# Altium schematic symbol library RPSLib.SchLib: 241 symbols (part 6 of 8)
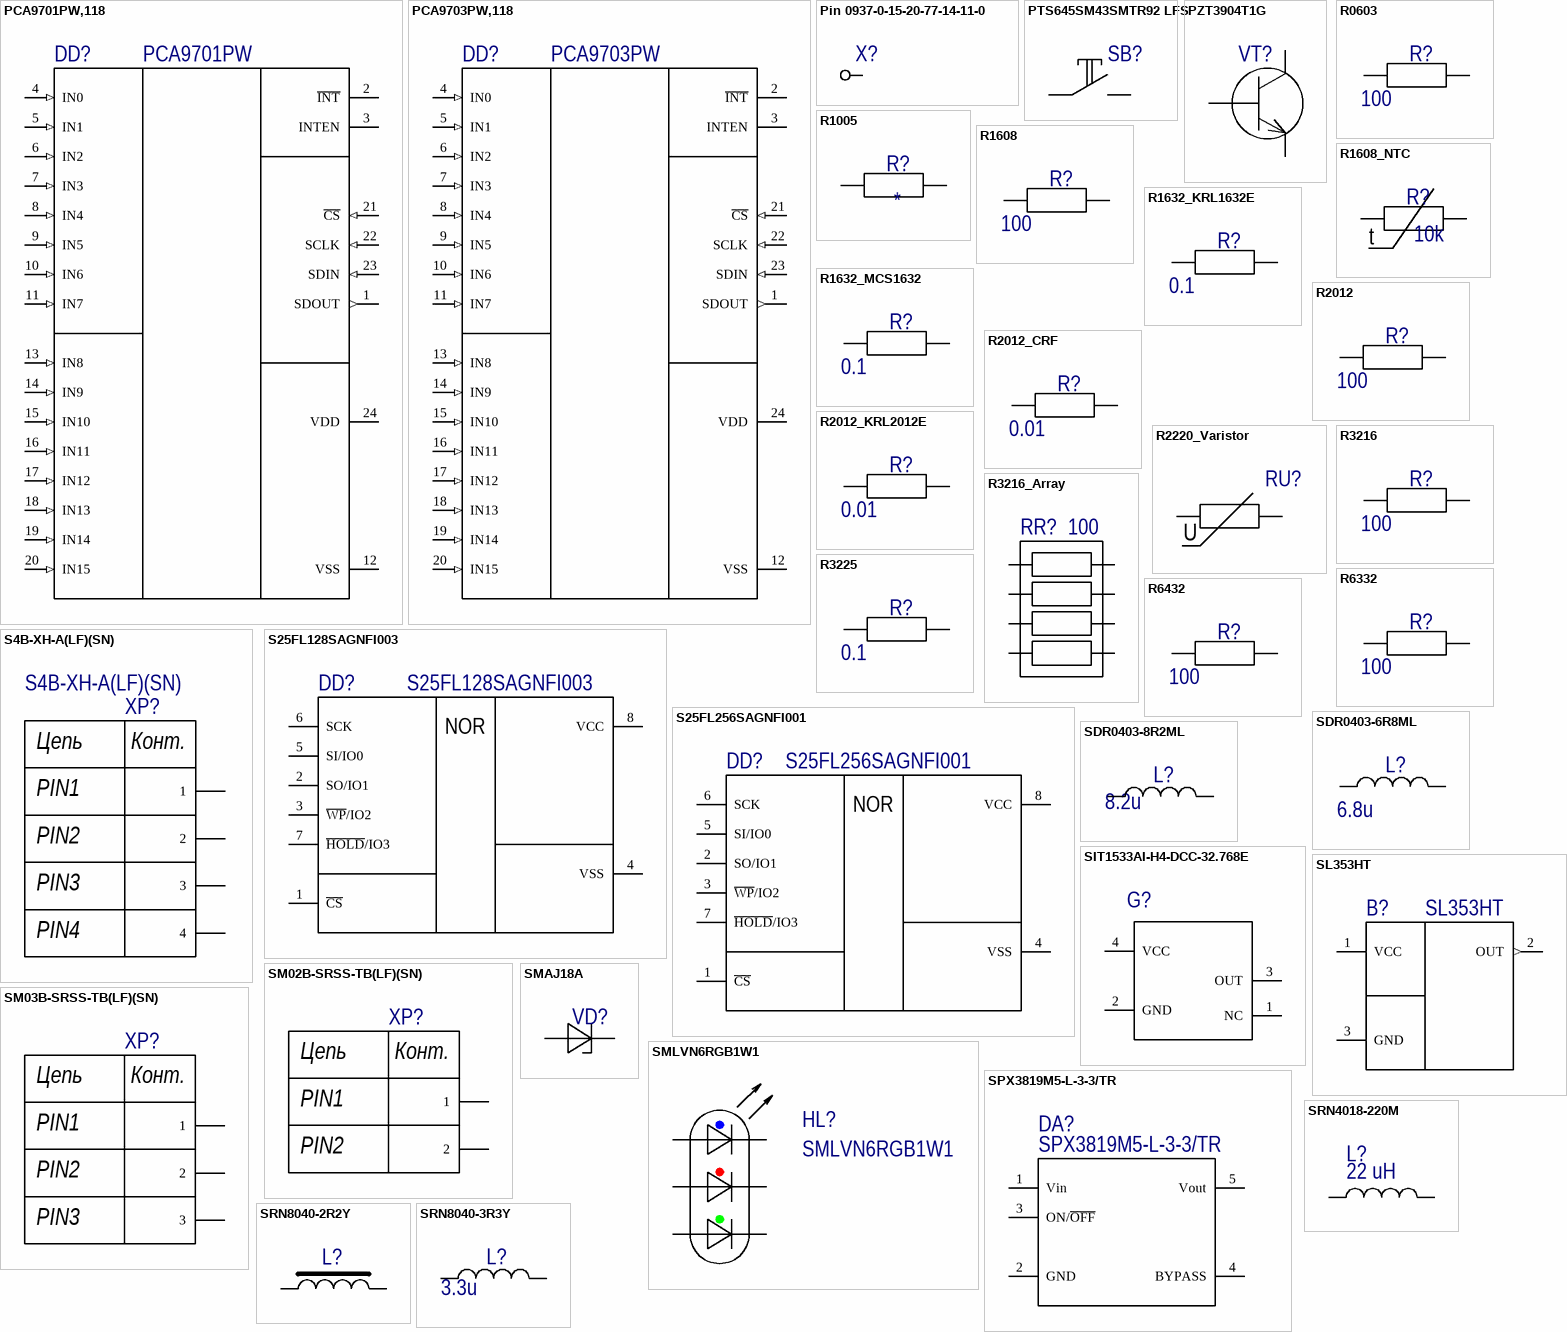
[diagram p30: symbols PCA9701PW,118 to SRN8040-3R3Y]

## SPX3819M5-L-3-3/TR
designator DA?
IC REG LINEAR 3.3V 500MA SOT23-5; Manufacturer: Exar; Dropout Voltage: 340mV; Number of Outputs: 1; Min Input Voltage: 2.5V; Max Input Voltage: 16V; Polarity: Positive; Quiescent Current: 3uA; Accuracy: 1%; Output Type: Fixed; Min Current Limit: 175mA; Power Supply Rejection Ratio (PSRR): 80dB; Supplier 1: Digi-Key; Stock 1: 74655; Pricing 1: 1=0.57, 10=0.479, 25=0.4196, 100=0.3595, 250=0.3116, 500=0.26364, 1000=0.20373 (USD); Mount: Surface Mount; Case/Package: SOT-23-5; Number of Pins: 5; Min Operating Temperature: -40°C; Max Operating Temperature: 125°C; Output Voltage: 3.3V; Packaging: Tape and Reel; Output Current: 500mA; Max Output Current: 500mA; Number of Regulators: 1; Min Output Voltage: 3.3V; Output Voltage Accuracy: 1%; Length: 2.9mm; Height: 1.3mm; Width: 1.6mm; Radiation Hardening: No; Lead Free: Lead Free; ComponentLink1URL: https://www.exar.com/content/document.ashx?id=22106&src-supplier=Digi-Key; ComponentLink1Description: https://www.exar.com/content/document.ashx?id=22106&src-supplier=Digi-Key; ComponentLink2URL: http://www1.futureelectronics.com/doc/EXAR/spx3819_Series.pdf?src-supplier=Future+Electronics; ComponentLink2Description: http://www1.futureelectronics.com/doc/EXAR/spx3819_Series.pdf?src-supplier=Future+Electronics; Package Quantity: 1; ComponentLink3URL: http://www.intersil.com/content/dam/Intersil/documents/isl9/isl9016.pdf?src-supplier=Digi-Key; ComponentLink3Description: http://www.intersil.com/content/dam/Intersil/documents/isl9/isl9016.pdf?src-supplier=Digi-Key; ComponentLink4URL: http://www.intersil.com/content/dam/Intersil/documents/isl9/isl9016.pdf?src-supplier=Avnet; ComponentLink4Description: http://www.intersil.com/content/dam/Intersil/documents/isl9/isl9016.pdf?src-supplier=Avnet; Manufacturer Part Number: SPX3819M5-L-3-3/TR; Supplier Part Number 1: 1016-1873-1-ND
footprint SOT95P280X145-5N (SOT23, 5-Leads, Body 2.90x2.80mm, Pitch 0.95mm, IPC Medium Density)
pins: 1 Vin, 2 GND, 3 ON/~{OFF}, 4 BYPASS, 5 Vout

## SRN4018-220M
designator L?  value 22 uH  (hidden comment: SRN4018-220M)
FIXED IND 22UH 900MA 348 MOHM; Manufacturer: Bourns; Current: 0.9 A; Core Material: Ferrite; Material: Steel; Tolerance: 20%; Shielding: Shielded; DC Resistance (DCR): 348mR; Self Resonant Frequency: 15MHz; Saturation Current: 950mA; Test Frequency: 100kHz; PartNo: SRN4018-220M; Supplier 1: Digi-Key; Supplier Part Number 1: SRN4018-220MCT-ND; Manufacturer Part Number: SRN4018-220M; Stock 1: 133818; Pricing 1: 1=0.44, 10=0.382, 100=0.2731, 500=0.22942, 1000=0.18573 (USD); Mount: Surface Mount; Case/Package: Nonstandard; Number of Pins: 2; Min Operating Temperature: -25°C; Max Operating Temperature: 120°C; Package Quantity: 3000; Packaging: Tape and Reel; Inductance: 22uh; Max DC Current: 900mA; Termination: SMD/SMT; Current Rating: 900mA; Inductance Tolerance: 20%; Composition: Wirewound; DC Current: 900mA; Military Standard: Not; RMS Current (Irms): 900mA; Length: 4mm; Height: 1.8mm; Width: 4mm; Depth: 4.2mm; Height - Seated (Max): 0.071inch; Radiation Hardening: No; REACH SVHC: No SVHC; РКД Наименование: *
footprint SRN4018 (Inductors)
pins: 1, 2

## SRN8040-2R2Y
designator L?  (value not drawn)
BOURNS - SRN8040-2R2Y - INDUCTOR, 2.2UH, 6.3A, 30%, SEMISHIELDED; Core Material: Ferrite; Material: Steel; DC Resistance (DCR): 13mR; Saturation Current: 7.4A; Self Resonant Frequency: 40MHz; Test Frequency: 100kHz; Supplier 1: Digi-Key; Manufacturer: Bourns; Manufacturer Part Number: SRN8040-2R2Y; RoHS: Yes; Category: Fixed Inductors; Stock 1: 4478; Pricing 1: 1=0,74000, 10=0,64400, 100=0,46000, 500=0,38640 (USD); Mount: Surface Mount; Case/Package: Nonstandard; Number of Pins: 2; Weight: 0.028607oz; Contact Plating: Tin; Min Operating Temperature: -40°C; Max Operating Temperature: 125°C; Tolerance: 30%; Inductance: 2.2uH; Max DC Current: 6.3A; Package Quantity: 1000; Packaging: Tape and Reel; Shielding: Shielded; Inductance Tolerance: 30%; Current Rating: 6.3A; Termination: SMD/SMT; Composition: Wirewound; DC Current: 6.3A; Military Standard: Not; RMS Current (Irms): 6.3A; Length: 8mm; Height: 4mm; Width: 8mm; Height - Seated (Max): 0.157inch; Depth: 8.3mm; REACH SVHC: No SVHC; ComponentLink1URL: https://datasheet.ciiva.com/11802/0900766b80fe1f3f-11802605.pdf?src-supplier=RSComponents; ComponentLink1Description: https://datasheet.ciiva.com/11802/0900766b80fe1f3f-11802605.pdf?src-supplier=RSComponents; ComponentLink2URL: https://datasheet.ciiva.com/28678/srn8040-28678249.pdf?src-supplier=Element14; ComponentLink2Description: https://datasheet.ciiva.com/28678/srn8040-28678249.pdf?src-supplier=Element14; ComponentLink3URL: https://datasheet.ciiva.com/8515/srn8040-8515258.pdf?src-supplier=Avnet; ComponentLink3Description: https://datasheet.ciiva.com/8515/srn8040-8515258.pdf?src-supplier=Avnet; ComponentLink4URL: https://datasheet.ciiva.com/7847/1865628-7847915.pdf?src-supplier=Element14; ComponentLink4Description: https://datasheet.ciiva.com/7847/1865628-7847915.pdf?src-supplier=Element14; ComponentLink5URL: https://datasheet.ciiva.com/1049/srn8040-1049453.pdf?src-supplier=Digi-Key; ComponentLink5Description: https://datasheet.ciiva.com/1049/srn8040-1049453.pdf?src-supplier=Digi-Key; ComponentLink6URL: https://datasheet.ciiva.com/1049/srn8040-1049454.pdf?src-supplier=Digi-Key; ComponentLink6Description: https://datasheet.ciiva.com/1049/srn8040-1049454.pdf?src-supplier=Digi-Key; ComponentLink7URL: https://datasheet.ciiva.com/1049/srn8040-1049455.pdf?src-supplier=Digi-Key; ComponentLink7Description: https://datasheet.ciiva.com/1049/srn8040-1049455.pdf?src-supplier=Digi-Key; ComponentLink8URL: https://datasheet.ciiva.com/17284/srn8040-17284783.pdf?src-supplier=Avnet+Europe; ComponentLink8Description: https://datasheet.ciiva.com/17284/srn8040-17284783.pdf?src-supplier=Avnet+Europe; ComponentLink9URL: https://datasheet.ciiva.com/48691/001056460-da-01-en-mag-abg-leist-ind-srn8040-2r2y-2-2uh-smd-48691836.pdf?src-supplier=Conrad; ComponentLink9Description: https://datasheet.ciiva.com/48691/001056460-da-01-en-mag-abg-leist-ind-srn8040-2r2y-2-2uh-smd-48691836.pdf?src-supplier=Conrad; Supplier Part Number 1: SRN8040-2R2YCT-ND
pins: 1, 2

## SRN8040-3R3Y
designator L?  value 3.3u  (hidden comment: *)
FIXED IND 3.3UH 5.6A 21 MOHM SMD; Manufacturer: Bourns; Manufacturer Part Number: SRN8040-3R3Y; Core Material: Ferrite; Material: Steel; Saturation Current: 5.5A; Tolerance: 30%; Shielding: Shielded; DC Resistance (DCR): 21mR; Self Resonant Frequency: 34MHz; Test Frequency: 100kHz; Supplier 1: Digi-Key; Stock 1: 24102; Pricing 1: 1=0,74000, 10=0,64400, 100=0,46000, 500=0,38640 (USD); RoHS: Yes; Mount: Surface Mount; Case/Package: Nonstandard; Number of Pins: 2; Min Operating Temperature: -40°C; Max Operating Temperature: 125°C; Package Quantity: 1000; Current Rating: 5.6A; Packaging: Tape and Reel; Inductance: 3.3u; Inductance Tolerance: 30%; Composition: Wirewound; Max DC Current: 5.6A; Termination: SMD/SMT; RMS Current (Irms): 5.6A; DC Current: 5.6A; Military Standard: Not; Length: 8mm; Height: 4mm; Width: 8mm; Height - Seated (Max): 0.157inch; Depth: 8.3mm; REACH SVHC: No SVHC; ComponentLink1URL: https://datasheet.ciiva.com/1049/srn8040-1049456.pdf?src-supplier=Digi-Key; ComponentLink1Description: https://datasheet.ciiva.com/1049/srn8040-1049456.pdf?src-supplier=Digi-Key; ComponentLink2URL: https://datasheet.ciiva.com/11802/0900766b80fe1f3f-11802600.pdf?src-supplier=RSComponents; ComponentLink2Description: https://datasheet.ciiva.com/11802/0900766b80fe1f3f-11802600.pdf?src-supplier=RSComponents; ComponentLink3URL: https://datasheet.ciiva.com/1049/srn8040-1049458.pdf?src-supplier=Digi-Key; ComponentLink3Description: https://datasheet.ciiva.com/1049/srn8040-1049458.pdf?src-supplier=Digi-Key; ComponentLink4URL: https://datasheet.ciiva.com/1049/srn8040-1049457.pdf?src-supplier=Digi-Key; ComponentLink4Description: https://datasheet.ciiva.com/1049/srn8040-1049457.pdf?src-supplier=Digi-Key; ComponentLink5URL: https://datasheet.ciiva.com/28678/1904951-28678250.pdf?src-supplier=Element14; ComponentLink5Description: https://datasheet.ciiva.com/28678/1904951-28678250.pdf?src-supplier=Element14; ComponentLink6URL: https://datasheet.ciiva.com/7847/1790247-7847916.pdf?src-supplier=Element14; ComponentLink6Description: https://datasheet.ciiva.com/7847/1790247-7847916.pdf?src-supplier=Element14; Supplier Part Number 1: SRN8040-3R3YCT-ND
footprint SRN8040-4.0 (Bourns SRN8040 Inductor)
pins: 1, 2

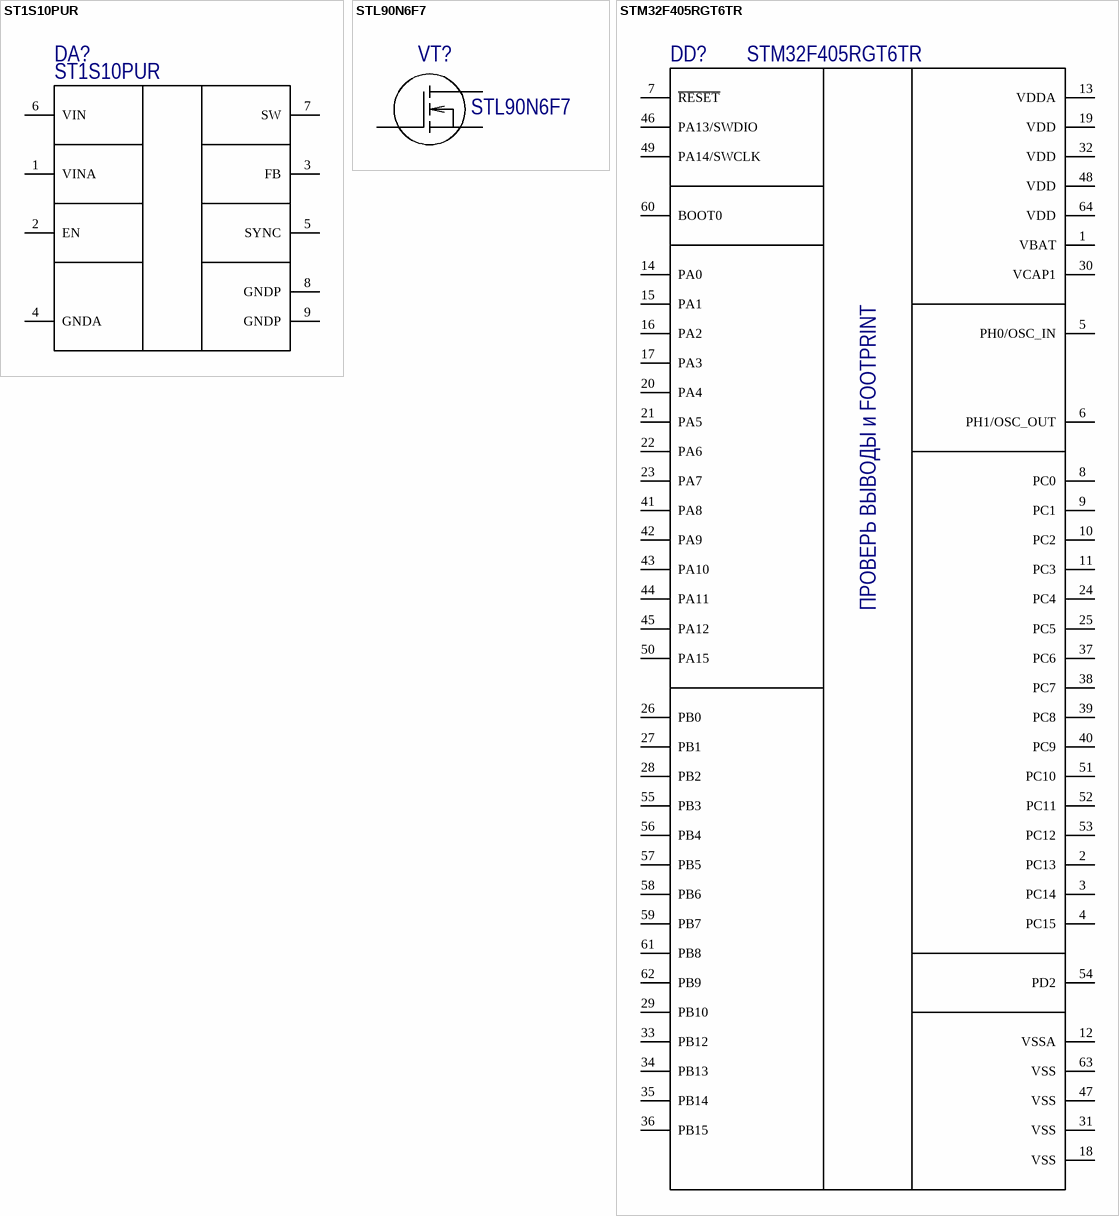
[diagram p10: symbols ST1S10PUR to STM32F405RGT6TR]

## ST1S10PUR
designator DA?
IC REG BUCK ADJ 3A SYNC DFN8; Manufacturer: STMicroelectronics; Output Voltage: 15.3V; Number of Outputs: 1; Min Input Voltage: 2.5V; Max Input Voltage: 18V; Switching Frequency: 1.2MHz; Efficiency: 90%; Synchronous Rectifier: Yes; Min Output Voltage: 800mV; Quiescent Current: 2.5mA; Output Type: Adjustable; Supplier 1: Digi-Key; Manufacturer Part Number: ST1S10PUR; Stock 1: 13825; Pricing 1: 1=1.78, 10=1.602, 100=1.2878, 500=1.05806, 1000=0.87668 (USD); Mount: Surface Mount; Case/Package: DFN; Number of Pins: 8; Weight: 0.001319oz; Min Operating Temperature: -25°C; Max Operating Temperature: 125°C; Package Quantity: 4500; Output Current: 3A; Operating Supply Voltage: 18V; Packaging: Tape and Reel; Max Output Current: 3A; Max Output Voltage: 15.3V; Max Duty Cycle: 90%; Length: 4mm; Height: 0.9mm; Width: 4mm; Radiation Hardening: No; Lead Free: Lead Free; REACH SVHC: No SVHC; Supplier Part Number 1: 497-6313-1-ND; РКД Наименование: *
footprint SON80P400X100_HS-9N (SON, 8-Leads, Body 4,00x4,00mm, Pitch 0,80mm, Thermal Pad 3,03x2,29mm, IPC Medium Density)
pins: 1 VINA, 2 EN, 3 FB, 4 GNDA, 5 SYNC, 6 VIN, 7 SW, 8 GNDP, 9 GNDP

## STL90N6F7
designator VT?
MOSFET N-CH 60V 90A F7 8PWRFLAT; Manufacturer: STMicroelectronics; Rds On Max: 5.4mR; Input Capacitance: 1.6nF; Max Power Dissipation: 94W; Supplier 1: Digi-Key; Manufacturer Part Number: STL90N6F7; RoHS: Yes; Category: MOSFETs; Stock 1: 5700; Pricing 1: 1=1,43000, 10=1,27600, 100=0,90850, 500=0,77002, 1000=0,62727 (USD); Mount: Surface Mount; Packaging: Tape and Reel; Drain to Source Voltage (Vdss): 60V; Continuous Drain Current (ID): 90A; Lead Free: Lead Free; ComponentLink1URL: https://media.digikey.com/pdf/Data%20Sheets/ST%20Microelectronics%20PDFS/STL90N6F7.pdf?src-supplier=Digi-Key; ComponentLink1Description: https://media.digikey.com/pdf/Data%20Sheets/ST%20Microelectronics%20PDFS/STL90N6F7.pdf?src-supplier=Digi-Key; ComponentLink2URL: http://www.mouser.com/ds/2/389/stl90n6f7-956156.pdf?src-supplier=Mouser; ComponentLink2Description: http://www.mouser.com/ds/2/389/stl90n6f7-956156.pdf?src-supplier=Mouser; Supplier Part Number 1: 497-15913-1-ND
footprint PowerFlat6x6_MOSFET
pins: 1 G, 2 S, 3 D
1 alternate drawing of the same symbol

## STM32F405RGT6TR
designator DD?
STM32F Series 1 MB Flash 192 KB RAM 168 MHz 32-Bit Microcontroller - LQFP-64; Manufacturer: STMicroelectronics; Core Architecture: ARM; Interface: CAN,I2C,I2S,IrDA,LIN,SPI,UART,USART,USB; Data Bus Width: 32b; RAM Size: 196KB; Number of I/Os: 51; Frequency: 168MHz; Memory Size: 1024KB; Max Supply Voltage: 3.6V; Min Supply Voltage: 1.8V; Number of Timers/Counters: 14; Oscillator Type: Internal; Number of ADC Channels: 16; Number of SPI Channels: 3; Peripherals: Brown-out Detect/Reset,DMA,LCD,POR,PWM,WDT; Number of UART Channels: 2; Watchdog Timer: Yes; Max Power Dissipation: 435mW; Supplier 1: Digi-Key; Manufacturer Part Number: STM32F405RGT6TR; Stock 1: 2483; Pricing 1: 1=11.7, 10=10.757, 100=9.0849, 500=8.0816 (USD); Mount: Surface Mount; Case/Package: LQFP; Number of Pins: 64; Contact Plating: Matte,Tin; Min Operating Temperature: -40°C; Max Operating Temperature: 85°C; Package Quantity: 1000; Packaging: Tape and Reel; Max Frequency: 168MHz; Number of I2C Channels: 3; Memory Type: FLASH; Number of Programmable I/O: 51; Number of USB Channels: 2; Length: 10mm; Height: 1.45mm; Width: 10mm; Radiation Hardening: No; Lead Free: Lead Free; ComponentLink1URL: http://www.st.com/st-web-ui/static/active/en/resource/technical/document/datasheet/DM00037051.pdf?src-supplier=Avnet; ComponentLink1Description: http://www.st.com/st-web-ui/static/active/en/resource/technical/document/datasheet/DM00037051.pdf?src-supplier=Avnet; Supplier Part Number 1: 497-17432-1-ND
footprint TSQFP50P1200X1200X160-64N (TSQFP, 64-Leads, Body 10,00x10,00mm, Pitch 0,50mm, IPC Medium Density)
pins: 1 VBAT, 2 PC13, 3 PC14, 4 PC15, 5 PH0/OSC_IN, 6 PH1/OSC_OUT, 7 ~{RESET}, 8 PC0, 9 PC1, 10 PC2, 11 PC3, 12 VSSA, 13 VDDA, 14 PA0, 15 PA1, 16 PA2, 17 PA3, 18 VSS, 19 VDD, 20 PA4, 21 PA5, 22 PA6, 23 PA7, 24 PC4, 25 PC5, 26 PB0, 27 PB1, 28 PB2, 29 PB10, 30 VCAP1, 31 VSS, 32 VDD, 33 PB12, 34 PB13, 35 PB14, 36 PB15, 37 PC6, 38 PC7, 39 PC8, 40 PC9, 41 PA8, 42 PA9, 43 PA10, 44 PA11, 45 PA12, 46 PA13/SWDIO, 47 VSS, 48 VDD, 49 PA14/SWCLK, 50 PA15, 51 PC10, 52 PC11, 53 PC12, 54 PD2, 55 PB3, 56 PB4, 57 PB5, 58 PB6, 59 PB7, 60 BOOT0, 61 PB8, 62 PB9, 63 VSS, 64 VDD
text: ПРОВЕРЬ ВЫВОДЫ и FOOTPRINT

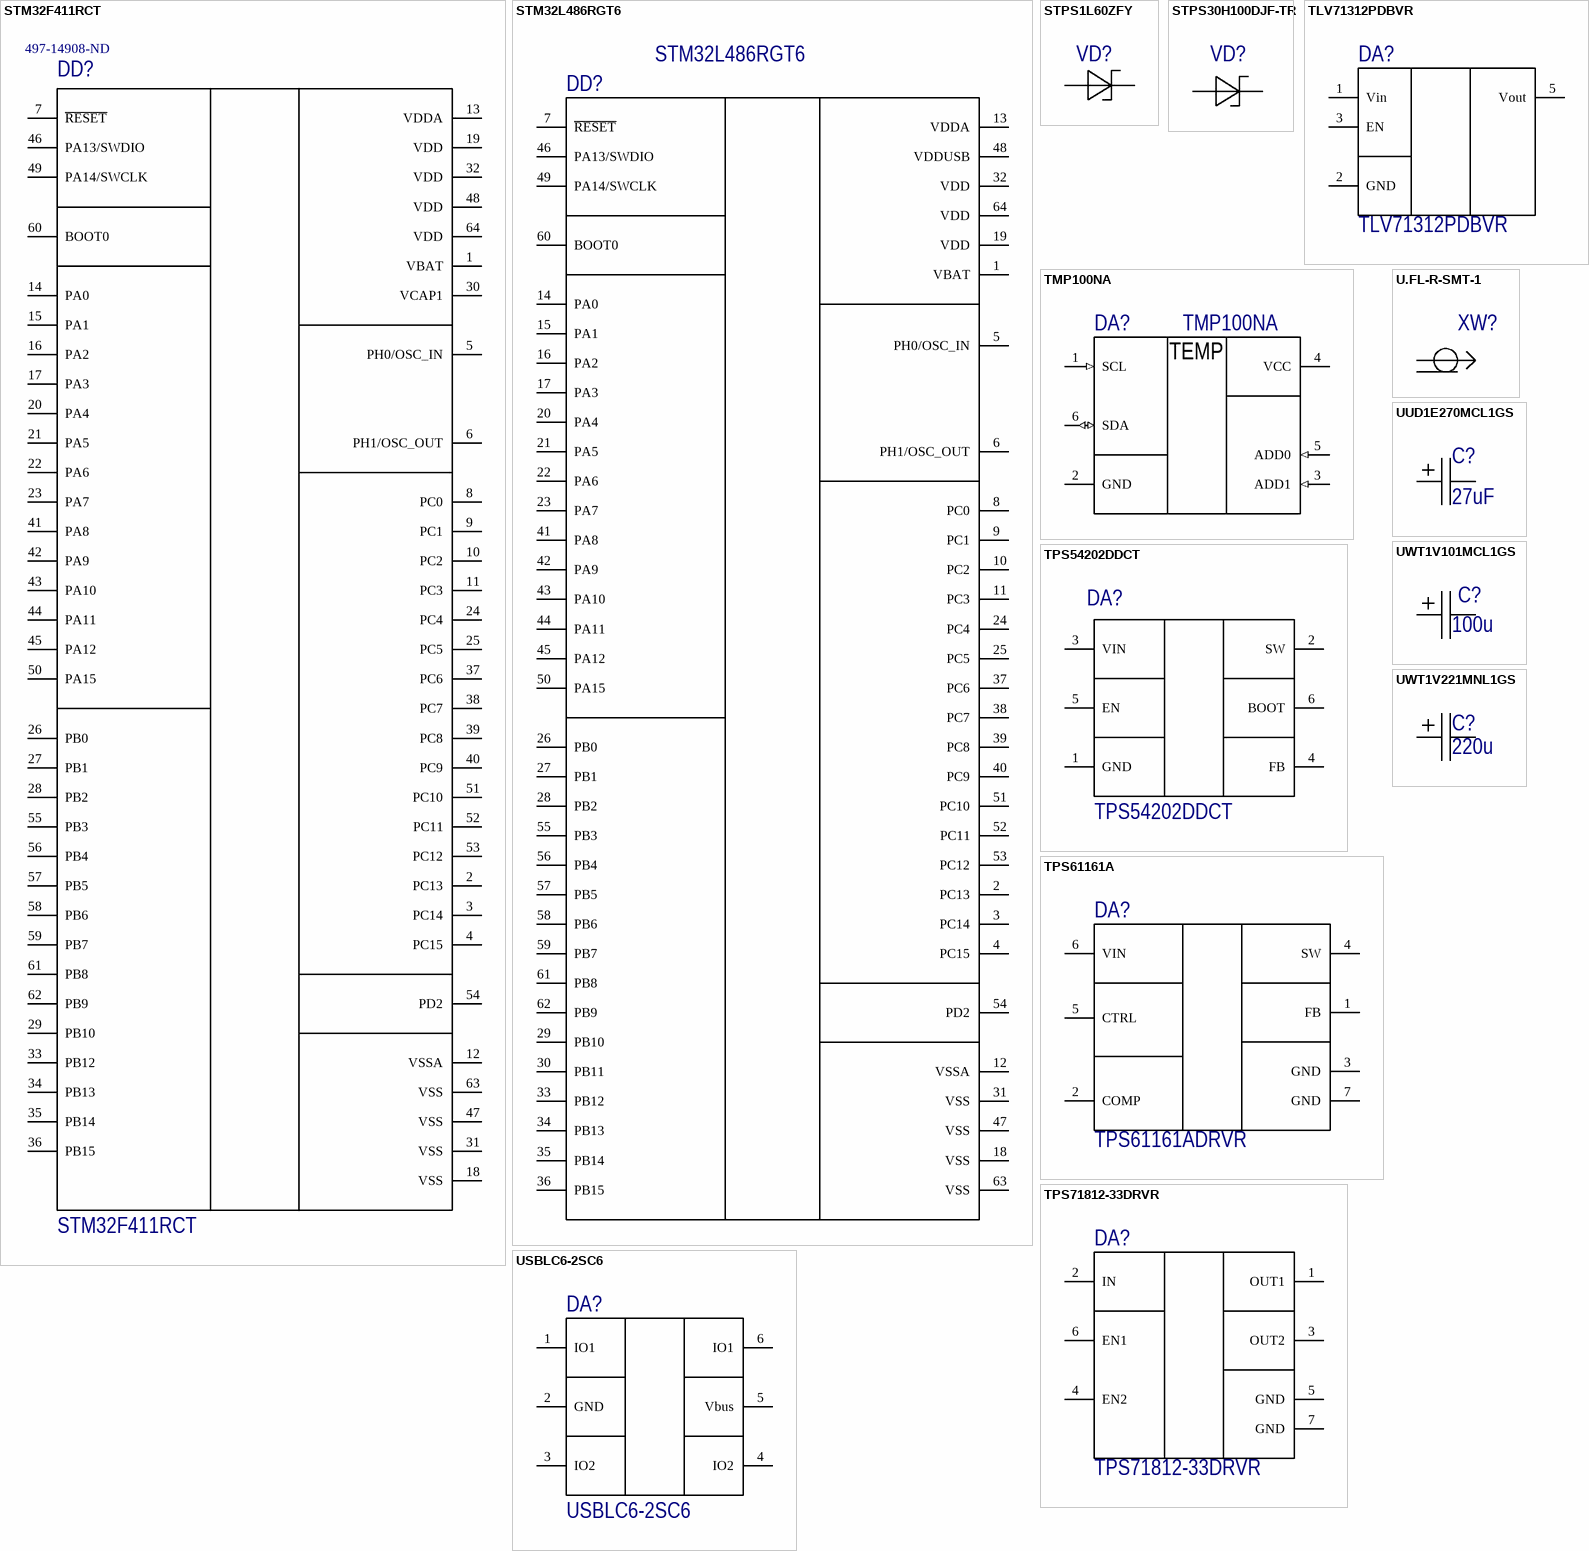
[diagram p11: symbols STM32F411RCT to UWT1V221MNL1GS]

## STM32F411RCT
designator DD?  Supplier Part Number 1: 497-14908-ND
32 Bit Microcontroller, Batch Acquisition Mode, ARM Cortex-M4, 100 MHz, 256 KB, 128 KB, 64 Pins; Manufacturer: STMicroelectronics; Manufacturer Part Number: STM32F411RCT6; RAM Size: 128KB; Max Power Dissipation: 313mW; Interface: I2C,I2S,IrDA,LIN,MMC,SD,SDIO,SPI,UART,USART,USB; Number of I/Os: 50; Number of Timers/Counters: 8; Frequency: 100MHz; Oscillator Type: Internal; Min Supply Voltage: 1.7V; Max Supply Voltage: 3.6V; Data Bus Width: 32b; Watchdog Timer: Yes; Memory Type: FLASH; Memory Size: 256KB; Number of ADC Channels: 16; Peripherals: Brown-out Detect/Reset,DMA,POR,PWM,WDT; Operating Supply Voltage: 3.3V; Supplier 1: Digi-Key; Stock 1: 2901; Pricing 1: 1=6.58, 10=5.91, 160=4.84188, 640=4.12178, 1120=3.4762 (USD); Mount: Surface Mount; Case/Package: LQFP; Number of Pins: 64; Weight: 0.012088oz; Min Operating Temperature: -40°C; Max Operating Temperature: 85°C; Packaging: Tray; Number of Programmable I/O: 50; Max Frequency: 100MHz; Package Quantity: 960; Core Architecture: ARM; Length: 10mm; Width: 10mm; Radiation Hardening: No; REACH SVHC: No SVHC; Lead Free: Lead Free; РКД Наименование: *
footprint TSQFP50P1200X1200X160-64N (TSQFP, 64-Leads, Body 10,00x10,00mm, Pitch 0,50mm, IPC Medium Density)
pins: 1 VBAT, 2 PC13, 3 PC14, 4 PC15, 5 PH0/OSC_IN, 6 PH1/OSC_OUT, 7 ~{RESET}, 8 PC0, 9 PC1, 10 PC2, 11 PC3, 12 VSSA, 13 VDDA, 14 PA0, 15 PA1, 16 PA2, 17 PA3, 18 VSS, 19 VDD, 20 PA4, 21 PA5, 22 PA6, 23 PA7, 24 PC4, 25 PC5, 26 PB0, 27 PB1, 28 PB2, 29 PB10, 30 VCAP1, 31 VSS, 32 VDD, 33 PB12, 34 PB13, 35 PB14, 36 PB15, 37 PC6, 38 PC7, 39 PC8, 40 PC9, 41 PA8, 42 PA9, 43 PA10, 44 PA11, 45 PA12, 46 PA13/SWDIO, 47 VSS, 48 VDD, 49 PA14/SWCLK, 50 PA15, 51 PC10, 52 PC11, 53 PC12, 54 PD2, 55 PB3, 56 PB4, 57 PB5, 58 PB6, 59 PB7, 60 BOOT0, 61 PB8, 62 PB9, 63 VSS, 64 VDD

## STM32L486RGT6
designator DD?
IC MCU 32BIT 1MB FLASH 64LQFP; Manufacturer: STMicroelectronics; Frequency: 80MHz; Interface: I2C,SPI,USB,CAN,IrDA,MMC,SD,UART,USART,LIN; Number of I/Os: 51; Oscillator Type: Internal; RAM Size: 128KB; Min Supply Voltage: 1.71V; Max Supply Voltage: 3.6V; Data Bus Width: 32b; Number of ADC Channels: 16; Data Rate: 5Mbps; Number of Timers/Counters: 11; Peripherals: Brown-out Detect/Reset,PWM,WDT,DMA,LCD; Core Architecture: ARM; Supplier 1: Digi-Key; Stock 1: 4803; Pricing 1: 1=10.07, 10=9.092, 160=7.52763, 640=6.55495, 1120=5.70915 (USD); Mount: Surface Mount; Case/Package: LQFP; Number of Pins: 64; Min Operating Temperature: -40°C; Max Operating Temperature: 85°C; Packaging: Tray; Max Frequency: 80MHz; Memory Type: FLASH; Memory Size: 1MB; Length: 10mm; Height: 1.45mm; Width: 10mm; REACH SVHC: No SVHC; Lead Free: Lead Free; Manufacturer Part Number: STM32L486RGT6; Supplier Part Number 1: 497-15874-ND
footprint TSQFP50P1200X1200X160-64N (TSQFP, 64-Leads, Body 10,00x10,00mm, Pitch 0,50mm, IPC Medium Density)
pins: 1 VBAT, 2 PC13, 3 PC14, 4 PC15, 5 PH0/OSC_IN, 6 PH1/OSC_OUT, 7 ~{RESET}, 8 PC0, 9 PC1, 10 PC2, 11 PC3, 12 VSSA, 13 VDDA, 14 PA0, 15 PA1, 16 PA2, 17 PA3, 18 VSS, 19 VDD, 20 PA4, 21 PA5, 22 PA6, 23 PA7, 24 PC4, 25 PC5, 26 PB0, 27 PB1, 28 PB2, 29 PB10, 30 PB11, 31 VSS, 32 VDD, 33 PB12, 34 PB13, 35 PB14, 36 PB15, 37 PC6, 38 PC7, 39 PC8, 40 PC9, 41 PA8, 42 PA9, 43 PA10, 44 PA11, 45 PA12, 46 PA13/SWDIO, 47 VSS, 48 VDDUSB, 49 PA14/SWCLK, 50 PA15, 51 PC10, 52 PC11, 53 PC12, 54 PD2, 55 PB3, 56 PB4, 57 PB5, 58 PB6, 59 PB7, 60 BOOT0, 61 PB8, 62 PB9, 63 VSS, 64 VDD

## STPS1L60ZFY
designator VD?  (value not drawn)
DIODE SCHOTTKY 60V 1A SOD123F; Manufacturer: STMicroelectronics; Supplier 1: Digi-Key; Manufacturer Part Number: STPS1L60ZFY; Stock 1: 85300; Pricing 1: 1=0.47, 10=0.346, 100=0.196, 500=0.1298, 1000=0.0995 (USD); Mount: Surface Mount; Case/Package: SOD; Packaging: Tape and Reel; Max Reverse Voltage (DC): 60V; Average Rectified Current: 1A; Supplier Part Number 1: 497-17154-1-ND
footprint SODFL350X110-2N (SODFL, 2-Leads, Body 1,65x3,50mm, IPC Medium Density)
pins: 1 2, 2 1

## STPS30H100DJF-TR
designator VD?  (value not drawn)
Diode Schottky 100V 30A 8-Pin Power Flat T/R; Manufacturer: STMicroelectronics; Element Configuration: Common Anode; Forward Voltage: 840mV; Peak Reverse Current: 6uA; Natural Thermal Resistance: 2°C/W; Peak Non-Repetitive Surge Current: 250A; Supplier 1: Digi-Key; Manufacturer Part Number: STPS30H100DJF-TR; RoHS: Yes; Category: Rectifier Diodes; Stock 1: 9779; Pricing 1: 1=1,55000, 10=1,39200, 100=1,02430, 500=0,86674, 1000=0,73542 (USD); Mount: Surface Mount; Case/Package: SMD/SMT; Number of Pins: 8; Min Operating Temperature: -65°C; Max Operating Temperature: 150°C; Package Quantity: 3000; Packaging: Tape and Reel; Forward Current: 30A; Reverse Voltage (DC): 100V; Average Rectified Current: 30A; Max Repetitive Reverse Voltage (Vrrm): 100V; Max Forward Surge Current (Ifsm): 250A; Max Reverse Voltage (DC): 100V; REACH SVHC: No SVHC; ComponentLink1URL: https://datasheet.ciiva.com/22686/1716329-22686564.pdf?src-supplier=Element14; ComponentLink1Description: https://datasheet.ciiva.com/22686/1716329-22686564.pdf?src-supplier=Element14; ComponentLink2URL: https://datasheet.ciiva.com/29591/dm00051769-29591284.pdf?src-supplier=Digi-Key; ComponentLink2Description: https://datasheet.ciiva.com/29591/dm00051769-29591284.pdf?src-supplier=Digi-Key; Supplier Part Number 1: 497-15671-1-ND
footprint PowerFlat6x6_diode
pins: 1 C, 2 A

## TLV71312PDBVR
designator DA?
LDO Voltage Regulators 150-mA LDO Reg w/ Foldbk Current Limit; Manufacturer: Texas Instruments; Dropout Voltage: 600mV; Number of Outputs: 1; Min Input Voltage: 1.4V; Max Input Voltage: 5.5V; Max Output Current: 150mA; Output Voltage: 1.2V; Min Current Limit: 180mA; Polarity: Positive; Accuracy: 1%; Power Supply Rejection Ratio (PSRR): 70dB; Quiescent Current: 50uA; Output Type: Fixed; Supplier 1: Digi-Key; Manufacturer Part Number: TLV71312PDBVR; Stock 1: 30621; Pricing 1: 1=0.42, 10=0.339, 100=0.2307, 500=0.17304, 1000=0.12978 (USD); Mount: Surface Mount; Case/Package: SOT-23; Number of Pins: 5; Contact Plating: Gold; Min Operating Temperature: -40°C; Max Operating Temperature: 125°C; Package Quantity: 1; Packaging: Tape and Reel; Output Current: 150mA; Number of Regulators: 1; Nominal Output Voltage: 1.2V; Output Voltage Accuracy: 1%; Radiation Hardening: No; REACH SVHC: No SVHC; Lead Free: Lead Free; Supplier Part Number 1: 296-35589-1-ND; РКД Наименование: *
footprint SOT95P280X110-5N (SOT23, 5-Leads, Body 2,90x2,80mm, Pitch 0,95mm, IPC Medium Density)
pins: 1 Vin, 2 GND, 3 EN, 5 Vout

## TMP100NA
designator DA?
TEXAS INSTRUMENTS - TMP100NA/250 - TEMPERATUR SENSOR; Interface: I2C,SMBus,2-Wire; Min Supply Voltage: 2.7V; Max Supply Voltage: 5.5V; Output Type: I2C,Digital; Resolution: 12b; Quiescent Current: 45uA; Number of Bits: 12; Operating Supply Current: 75uA; Nominal Supply Current: 150uA; Output Current: 4mA; IIC Address: 1001AAA; Supplier 1: Digi-Key; Manufacturer: Texas Instruments; Manufacturer Part Number: TMP100NA/250; RoHS: Yes; Category: Power Management ICs; Stock 1: 10497; Pricing 1: 1=2,68000, 5=2,53400, 10=2,17100, 25=1,73720, 50=1,59240, 100=1,44760 (USD); Mount: Surface Mount; Case/Package: SOT-23; Number of Pins: 6; Contact Plating: Gold; Min Operating Temperature: -55°C; Max Operating Temperature: 125°C; Package Quantity: 250; Packaging: Tape and Reel; Max Supply Voltage (DC): 5.5V; Min Supply Voltage (DC): 2.7V; Termination: SMD/SMT; Length: 2.9mm; Height: 1.15mm; Width: 1.6mm; Radiation Hardening: No; Lead Free: Lead Free; REACH SVHC: No SVHC; ComponentLink1URL: https://datasheet.ciiva.com/34303/1927174-34303272.pdf?src-supplier=Jameco; ComponentLink1Description: https://datasheet.ciiva.com/34303/1927174-34303272.pdf?src-supplier=Jameco; ComponentLink2URL: https://datasheet.ciiva.com/15098/getdatasheetpartid-295657-15098429.pdf?src-supplier=Verical; ComponentLink2Description: https://datasheet.ciiva.com/15098/getdatasheetpartid-295657-15098429.pdf?src-supplier=Verical; ComponentLink3URL: https://datasheet.ciiva.com/2003/tmp100-2003093.pdf?src-supplier=Digi-Key; ComponentLink3Description: https://datasheet.ciiva.com/2003/tmp100-2003093.pdf?src-supplier=Digi-Key; ComponentLink4URL: https://datasheet.ciiva.com/22697/1904850-22697893.pdf?src-supplier=Element14; ComponentLink4Description: https://datasheet.ciiva.com/22697/1904850-22697893.pdf?src-supplier=Element14; ComponentLink5URL: https://datasheet.ciiva.com/2003/tmp100-2003094.pdf?src-supplier=Digi-Key; ComponentLink5Description: https://datasheet.ciiva.com/2003/tmp100-2003094.pdf?src-supplier=Digi-Key; ComponentLink6URL: https://datasheet.ciiva.com/2003/tmp100-2003095.pdf?src-supplier=Digi-Key; ComponentLink6Description: https://datasheet.ciiva.com/2003/tmp100-2003095.pdf?src-supplier=Digi-Key; ComponentLink7URL: https://datasheet.ciiva.com/3278/tmp101-3278377.pdf?src-supplier=Avnet; ComponentLink7Description: https://datasheet.ciiva.com/3278/tmp101-3278377.pdf?src-supplier=Avnet; ComponentLink8URL: https://datasheet.ciiva.com/1514/1772209-1514091.pdf?src-supplier=Element14; ComponentLink8Description: https://datasheet.ciiva.com/1514/1772209-1514091.pdf?src-supplier=Element14; ComponentLink9URL: https://datasheet.ciiva.com/26021/tmp101-26021436.pdf?src-supplier=Avnet+Europe; ComponentLink9Description: https://datasheet.ciiva.com/26021/tmp101-26021436.pdf?src-supplier=Avnet+Europe; ComponentLink10URL: https://datasheet.ciiva.com/3277/tmp101-3277999.pdf?src-supplier=Avnet; ComponentLink10Description: https://datasheet.ciiva.com/3277/tmp101-3277999.pdf?src-supplier=Avnet; ComponentLink11URL: https://datasheet.ciiva.com/46382/1772209-46382799.pdf?src-supplier=Element14; ComponentLink11Description: https://datasheet.ciiva.com/46382/1772209-46382799.pdf?src-supplier=Element14; Supplier Part Number 1: 296-12749-1-ND
footprint SOT95P280X145-6N (SOT23, 6-Leads, Body 2.92x2.80mm, Pitch 0.95mm, IPC Medium Density)
pins: 1 SCL (in), 2 GND, 3 ADD1 (in), 4 VCC (power), 5 ADD0 (in), 6 SDA (io)
text: TEMP

## TPS54202DDCT
designator DA?
IC REG BUCK ADJ 2A SYNC SOT23-6; Manufacturer: Texas Instruments; Switching Frequency: 500kHz; Quiescent Current: 40uA; Number of Outputs: 1; Min Input Voltage: 4.5V; Max Input Voltage: 28V; Min Output Voltage: 596mV; Output Voltage: 26V; Synchronous Rectifier: Yes; Output Type: Adjustable; Output Configuration: Positive; Supplier 1: Digi-Key; Manufacturer Part Number: TPS54202DDCT; Stock 1: 15830; Pricing 1: 1=1,57000, 10=1,41100, 100=1,06500 (USD); RoHS: Yes; Mount: Surface Mount; Case/Package: SOT-23-6; Number of Pins: 6; Min Operating Temperature: -40°C; Max Operating Temperature: 125°C; Output Current: 2A; Packaging: Cut Tape; Max Output Voltage: 28V; Lead Free: Lead Free; REACH SVHC: No SVHC; ComponentLink1URL: http://www.ti.com/lit/ds/symlink/tps54202.pdf?src-supplier=Farnell; ComponentLink1Description: http://www.ti.com/lit/ds/symlink/tps54202.pdf?src-supplier=Farnell; ComponentLink2URL: http://www.ti.com/general/docs/lit/getliterature.tsp?genericPartNumber=TPS54202&&fileType=pdf&src-supplier=Element14; ComponentLink2Description: http://www.ti.com/general/docs/lit/getliterature.tsp?genericPartNumber=TPS54202&&fileType=pdf&src-supplier=Element14; ComponentLink3URL: http://www.ti.com/lit/ds/symlink/tps54202.pdf?src-supplier=Newark; ComponentLink3Description: http://www.ti.com/lit/ds/symlink/tps54202.pdf?src-supplier=Newark; ComponentLink4URL: http://www.ti.com/lit/ds/symlink/tps54202.pdf?src-supplier=Digi-Key; ComponentLink4Description: http://www.ti.com/lit/ds/symlink/tps54202.pdf?src-supplier=Digi-Key; Supplier Part Number 1: 296-44151-1-ND
footprint SOT95P280X110-6N (SOT23, 6-Leads, Body 2,90x2,80mm, Pitch 0,95mm, IPC Medium Density)
pins: 1 GND (power), 2 SW, 3 VIN (power), 4 FB, 5 EN, 6 BOOT

## TPS61161A
designator DA?, comment TPS61161ADRVR
IC LED DRIVER WHITE BCKLGT 6SON; Manufacturer: Texas Instruments; Output Current: 85mA; Max Power Dissipation: 1.54W; Number of Outputs: 1; Frequency: 700kHz; Max Supply Voltage: 18V; Min Supply Voltage: 2.7V; Max Supply Current: 1.8mA; Output Voltage: 38V; Number of Segments: 10; Low Level Output Current: 100uA; Quiescent Current: 1.5mA; Topology: Boost; Supplier 1: Digi-Key; Manufacturer Part Number: TPS61161ADRVR; Stock 1: 27247; Pricing 1: 1=1.32, 10=1.176, 100=0.9168, 500=0.75736, 1000=0.59792 (USD); Number of Pins: 6; Contact Plating: Gold; Min Operating Temperature: -40°C; Max Operating Temperature: 85°C; Packaging: Tape and Reel; Package Quantity: 3000; Max Input Voltage: 18V; Min Input Voltage: 2.7V; Power Dissipation: 1.54W; High Level Output Current: 100uA; Number of Channels: 1; Radiation Hardening: No; Lead Free: Lead Free; Supplier Part Number 1: 296-24512-6-ND; РКД Наименование: *
footprint PSON65P200X80_HS-7N (PSON, 6-Leads, Body 2.00x2.00mm, Pitch 0.65mm, Thermal Pad 1.60x0.96mm, IPC Medium Density)
pins: 1 FB, 2 COMP, 3 GND, 4 SW, 5 CTRL, 6 VIN, 7 GND

## TPS71812-33DRVR
designator DA?
IC REG LIN 1.2V/3.3V 200MA 6SON; Manufacturer: Texas Instruments; Max Power Dissipation: 1.053W; Dropout Voltage: 230mV; Number of Outputs: 2; Output Voltage: 3.3V; Max Input Voltage: 6.5V; Min Input Voltage: 2.7V; Min Current Limit: 240mA; Input Bias Current: 90uA; Polarity: Positive; Output Voltage Accuracy: 2.5%; Output Type: Fixed; РКД Наименование: TPS71812-33DRVR - Регулятор напряжения; Supplier 1: Digi-Key; Manufacturer Part Number: TPS71812-33DRVR; Stock 1: 2420; Pricing 1: 1=1.72, 10=1.545, 100=1.2417, 500=1.0202, 1000=0.8453 (USD); Number of Pins: 6; Min Operating Temperature: -40°C; Max Operating Temperature: 125°C; Package Quantity: 1; Output Current: 200mA; Packaging: Tape and Reel; Max Output Current: 200mA; Number of Regulators: 2; Power Dissipation: 1.053W; Accuracy: 2.5%; Quiescent Current: 90uA; Radiation Hardening: No; Lead Free: Lead Free; ComponentLink1URL: http://www.ti.com/lit/ds/symlink/tps718.pdf?src-supplier=Digi-Key; ComponentLink1Description: http://www.ti.com/lit/ds/symlink/tps718.pdf?src-supplier=Digi-Key; ComponentLink2URL: http://www.ti.com/general/docs/lit/getliterature.tsp?genericPartNumber=TPS71928-28&&fileType=pdf&src-supplier=Avnet; ComponentLink2Description: http://www.ti.com/general/docs/lit/getliterature.tsp?genericPartNumber=TPS71928-28&&fileType=pdf&src-supplier=Avnet; Supplier Part Number 1: 296-22009-1-ND
footprint PSON65P200X80_HS-7N (PSON, 6-Leads, Body 2,00x2,00mm, Pitch 0,65mm, Thermal Pad 1,60x0,96mm, IPC Medium Density)
pins: 1 OUT1, 2 IN, 3 OUT2, 4 EN2, 5 GND, 6 EN1, 7 GND

## U.FL-R-SMT-1
designator XW?  (value not drawn)
CONN UMC JACK STR 50 OHM SMD; Manufacturer: Hirose; Manufacturer Part Number: U.FL-R-SMT-1(10); Body Plating: Silver; Body Material: Bronze; Dielectric Material: Polymer; Impedance: 50R; Connector Type: Coaxial,Male Pin,Receptacle; Frequency: 6GHz; Gender: Male; Wire/Cable Type: Coaxial; Insulation Resistance: 500MR; Supplier 1: Digi-Key; Stock 1: 677500; Pricing 1: 2500=0.5945 (USD); Mount: PCB,Surface Mount,Through Hole; Contact Material: Brass,Bronze; Contact Plating: Gold; Housing Colour: Beige; Min Operating Temperature: -40°C; Max Operating Temperature: 90°C; Packaging: Tape and Reel; Termination: Solder; Orientation: Straight; Package Quantity: 2500; Fastening Type: Snap; Max Frequency: 6GHz; Length: 3mm; Depth: 3.1mm; Radiation Hardening: No; Lead Free: Lead Free; REACH SVHC: No SVHC; Supplier Part Number 1: H11891TR-ND; РКД Наименование: *
footprint U.FL-R-SMT-1 (U.FL SMD connector)
pins: 1, 2
1 alternate drawing of the same symbol

## USBLC6-2SC6
designator DA?
USB protection IC; Manufacturer: STMicroelectronics; Direction: Bidirectional,Unidirectional; Capacitance: 3.5pF; Clamping Voltage: 17V; Operating Supply Voltage: 1.1V; Number of Channels: 2; Breakdown Voltage: 6V; Reverse Standoff Voltage: 5.25V; Power Line Protection: Yes; Test Current: 1mA; Max Reverse Leakage Current: 150nA; Peak Pulse Current: 5A; Element Configuration: Dual; Data Rate: 480Mbps; Number of Elements: 1; Working Voltage: 5V; PartNo: USBLC6-2SC6; Supplier 1: Digi-Key; Manufacturer Part Number: USBLC6-2SC6; Stock 1: 165611; Pricing 1: 1=0.49, 10=0.419, 100=0.3131, 500=0.24602, 1000=0.1901 (USD); Mount: Surface Mount; Case/Package: SOT-23; Number of Pins: 6; Contact Plating: Matte,Tin; Min Operating Temperature: -40°C; Max Operating Temperature: 125°C; Packaging: Tape and Reel; Package Quantity: 3000; Termination: SMD/SMT; Number of Bidirectional Channels: 2; Min Breakdown Voltage: 6V; ESD Protection: Yes; Leakage Current: 150nA; Reverse Breakdown Voltage: 6V; Polarity: Bidirectional,Unidirectional; Max Breakdown Voltage: 6V; Length: 3.05mm; Height: 1.3mm; Width: 1.75mm; Depth: 1.75mm; Radiation Hardening: No; REACH SVHC: No SVHC; Lead Free: Lead Free; ComponentLink1URL: http://www.farnell.com/datasheets/1690354.pdf; ComponentLink1Description: http://www.farnell.com/datasheets/1690354.pdf; ComponentLink2URL: http://www.st.com/content/ccc/resource/technical/document/datasheet/06/1d/48/9c/6c/20/4a/b2/CD00050750.pdf/files/CD00050750.pdf/jcr:content/translations/en.CD00050750.pdf; ComponentLink2Description: http://www.st.com/content/ccc/resource/technical/document/datasheet/06/1d/48/9c/6c/20/4a/b2/CD00050750.pdf/files/CD00050750.pdf/jcr:content/translations/en.CD00050750.pdf; ComponentLink3URL: http://www.st.com/web/en/resource/technical/document/datasheet/CD00050750.pdf; ComponentLink3Description: http://www.st.com/web/en/resource/technical/document/datasheet/CD00050750.pdf; ComponentLink4URL: http://datasheet.iiic.cc/stmicroelectronics/USBLC6-2SC6.pdf; ComponentLink4Description: http://datasheet.iiic.cc/stmicroelectronics/USBLC6-2SC6.pdf; ComponentLink5URL: http://www.produktinfo.conrad.com/datenblaetter/1100000-1199999/001184109-da-01-en-IC_ESD_PROTECTI_USBLC6_2SC6_SOT_23_6_STM.pdf; ComponentLink5Description: http://www.produktinfo.conrad.com/datenblaetter/1100000-1199999/001184109-da-01-en-IC_ESD_PROTECTI_USBLC6_2SC6_SOT_23_6_STM.pdf; Supplier Part Number 1: 497-5235-1-ND; РКД Наименование: *
footprint SOT95P280X145-6N (SOT23, 6-Leads, Body 2.90x2.80mm, Pitch 0.95mm, IPC Medium Density)
pins: 1 IO1, 2 GND, 3 IO2, 4 IO2, 5 Vbus, 6 IO1

## UUD1E270MCL1GS
designator C?  value 27uF  (hidden comment: *)
CAP ALUM 27UF 20% 25V SMD; Manufacturer: Nichicon; Manufacturer Part Number: UUD1E270MCL1GS; Ripple Current: 230mA; Impedance: 440mR; Leakage Current: 6.75uA; Life (Hours): 2000Hour; Supplier 1: Digi-Key; Stock 1: 2059; Pricing 1: 1=0,43000, 10=0,30400, 100=0,20040, 500=0,14844 (USD); RoHS: Yes; Case/Package: Radial; Number of Pins: 2; Min Operating Temperature: -55°C; Max Operating Temperature: 105°C; Tolerance: 20%; Capacitance: 27uF; Package Quantity: 1; Voltage Rating (DC): 25V; Packaging: Tape and Reel; Voltage Rating: 25V; Termination: SMD/SMT; Diameter: 6.3mm; Length: 5.8mm; Height: 5.8mm; Height - Seated (Max): 0.228inch; Radiation Hardening: No; Lead Free: Lead Free; ComponentLink1URL: https://datasheet.ciiva.com/5364/e-ud-5364230.pdf?src-supplier=Mouser; ComponentLink1Description: https://datasheet.ciiva.com/5364/e-ud-5364230.pdf?src-supplier=Mouser; ComponentLink2URL: https://datasheet.ciiva.com/111/e-ud-111623.pdf?src-supplier=Digi-Key; ComponentLink2Description: https://datasheet.ciiva.com/111/e-ud-111623.pdf?src-supplier=Digi-Key; ComponentLink3URL: https://datasheet.ciiva.com/17525/e-ud-17525990.pdf?src-supplier=Avnet+Europe; ComponentLink3Description: https://datasheet.ciiva.com/17525/e-ud-17525990.pdf?src-supplier=Avnet+Europe; ComponentLink4URL: https://datasheet.ciiva.com/111/e-ud-111624.pdf?src-supplier=Digi-Key; ComponentLink4Description: https://datasheet.ciiva.com/111/e-ud-111624.pdf?src-supplier=Digi-Key; ComponentLink5URL: https://datasheet.ciiva.com/111/e-ud-111625.pdf?src-supplier=Digi-Key; ComponentLink5Description: https://datasheet.ciiva.com/111/e-ud-111625.pdf?src-supplier=Digi-Key; Supplier Part Number 1: 493-2271-1-ND
footprint CAPAE7066X63N (Aluminum Electrolytic Capacitor, Body 6,60x6,60x6,30mm, IPC Medium Density)
pins: 1, 2

## UWT1V101MCL1GS
designator C?  value 100u
CAP ALUM 100UF 20% 35V SMD; Manufacturer: Nichicon; Manufacturer Part Number: UWT1V101MCL1GS; Dielectric Material: Aluminium; Ripple Current: 84mA; Leakage Current: 3uA; Life (Hours): 1000Hour; Dissipation Factor: 0.14%; Lead Diameter: 0.8mm; Supplier 1: Digi-Key; Stock 1: 198740; Pricing 1: 1=0,42000, 10=0,29400, 100=0,17630 (USD); RoHS: Yes; Mount: Surface Mount,PCB; Case/Package: Radial; Number of Pins: 2; Min Operating Temperature: -55°C; Max Operating Temperature: 105°C; Capacitance: 100u; Tolerance: 20%; Ripple Current (AC): 84mA; Voltage Rating: 35V; Packaging: Tape and Reel; Package Quantity: 900; Voltage Rating (DC): 35V; Termination: SMD/SMT; Voltage: 35V; Diameter: 6.3mm; Length: 7.7mm; Height: 7.7mm; Lead Pitch: 2.2mm; Height - Seated (Max): 0.303inch; Radiation Hardening: No; REACH SVHC: No SVHC; Lead Free: Lead Free; ComponentLink1URL: https://datasheet.ciiva.com/96/e-wt-96659.pdf?src-supplier=Digi-Key; ComponentLink1Description: https://datasheet.ciiva.com/96/e-wt-96659.pdf?src-supplier=Digi-Key; ComponentLink2URL: https://datasheet.ciiva.com/96/e-wt-96660.pdf?src-supplier=Digi-Key; ComponentLink2Description: https://datasheet.ciiva.com/96/e-wt-96660.pdf?src-supplier=Digi-Key; ComponentLink3URL: https://datasheet.ciiva.com/96/e-wt-96661.pdf?src-supplier=Digi-Key; ComponentLink3Description: https://datasheet.ciiva.com/96/e-wt-96661.pdf?src-supplier=Digi-Key; ComponentLink4URL: https://datasheet.ciiva.com/11778/0900766b80fa3a91-11778473.pdf?src-supplier=RSComponents; ComponentLink4Description: https://datasheet.ciiva.com/11778/0900766b80fa3a91-11778473.pdf?src-supplier=RSComponents; ComponentLink5URL: https://datasheet.ciiva.com/15199/getdatasheetpartid-450031-15199274.pdf?src-supplier=Verical; ComponentLink5Description: https://datasheet.ciiva.com/15199/getdatasheetpartid-450031-15199274.pdf?src-supplier=Verical; ComponentLink6URL: https://datasheet.ciiva.com/17528/e-wt-17528043.pdf?src-supplier=Avnet+Europe; ComponentLink6Description: https://datasheet.ciiva.com/17528/e-wt-17528043.pdf?src-supplier=Avnet+Europe; ComponentLink7URL: https://datasheet.ciiva.com/11687/e-wt-11687372.pdf?src-supplier=Avnet; ComponentLink7Description: https://datasheet.ciiva.com/11687/e-wt-11687372.pdf?src-supplier=Avnet; ComponentLink8URL: https://datasheet.ciiva.com/16294/e-wt-16294316.pdf?src-supplier=Future+Electronics; ComponentLink8Description: https://datasheet.ciiva.com/16294/e-wt-16294316.pdf?src-supplier=Future+Electronics; Supplier Part Number 1: 493-2203-1-ND
footprint CAPAE7066X78N (Aluminum Electrolytic Capacitor, Body 6,60x6,60x7,80mm, IPC Medium Density)
pins: 1, 2

## UWT1V221MNL1GS
designator C?  Capacitance: 220u  (hidden comment: *)
CAP ALUM 220UF 20% 35V SMD; Manufacturer: Nichicon; Manufacturer Part Number: UWT1V221MNL1GS; Dielectric Material: Aluminium; Ripple Current: 190mA; Leakage Current: 3uA; Life (Hours): 1000Hour; Dissipation Factor: 0.14%; Lead Diameter: 1.1mm; Supplier 1: Digi-Key; Stock 1: 511777; Pricing 1: 1=0,51000, 10=0,36300, 100=0,23900 (USD); RoHS: Yes; Mount: Surface Mount; Case/Package: Radial; Number of Pins: 2; Min Operating Temperature: -55°C; Max Operating Temperature: 105°C; Tolerance: 20%; Packaging: Tape and Reel; Package Quantity: 500; Voltage Rating: 35V; Voltage Rating (DC): 35V; Ripple Current (AC): 190mA; Termination: SMD/SMT; Voltage: 35V; Diameter: 8mm; Length: 10mm; Height: 10mm; Lead Pitch: 0.327inch; Height - Seated (Max): 0.394inch; Radiation Hardening: No; REACH SVHC: No SVHC; Lead Free: Lead Free; ComponentLink1URL: https://datasheet.ciiva.com/11776/0900766b80fa3a91-11776929.pdf?src-supplier=RSComponents; ComponentLink1Description: https://datasheet.ciiva.com/11776/0900766b80fa3a91-11776929.pdf?src-supplier=RSComponents; ComponentLink2URL: https://datasheet.ciiva.com/7793/e-wt-7793511.pdf?src-supplier=Element14; ComponentLink2Description: https://datasheet.ciiva.com/7793/e-wt-7793511.pdf?src-supplier=Element14; ComponentLink3URL: https://datasheet.ciiva.com/16295/e-wt-16295384.pdf?src-supplier=Future+Electronics; ComponentLink3Description: https://datasheet.ciiva.com/16295/e-wt-16295384.pdf?src-supplier=Future+Electronics; ComponentLink4URL: https://datasheet.ciiva.com/28458/1910938-28458522.pdf?src-supplier=Element14; ComponentLink4Description: https://datasheet.ciiva.com/28458/1910938-28458522.pdf?src-supplier=Element14; ComponentLink5URL: https://datasheet.ciiva.com/15199/getdatasheetpartid-212340-15199275.pdf?src-supplier=Verical; ComponentLink5Description: https://datasheet.ciiva.com/15199/getdatasheetpartid-212340-15199275.pdf?src-supplier=Verical; ComponentLink6URL: https://datasheet.ciiva.com/97/e-wt-97116.pdf?src-supplier=Digi-Key; ComponentLink6Description: https://datasheet.ciiva.com/97/e-wt-97116.pdf?src-supplier=Digi-Key; ComponentLink7URL: https://datasheet.ciiva.com/97/e-wt-97117.pdf?src-supplier=Digi-Key; ComponentLink7Description: https://datasheet.ciiva.com/97/e-wt-97117.pdf?src-supplier=Digi-Key; ComponentLink8URL: https://datasheet.ciiva.com/97/e-wt-97118.pdf?src-supplier=Digi-Key; ComponentLink8Description: https://datasheet.ciiva.com/97/e-wt-97118.pdf?src-supplier=Digi-Key; Supplier Part Number 1: 493-2205-1-ND
footprint CAPAE8983X105N (Aluminum Electrolytic Capacitor, Body 8,30x8,30x10,50mm, IPC Medium Density)
pins: 1, 2

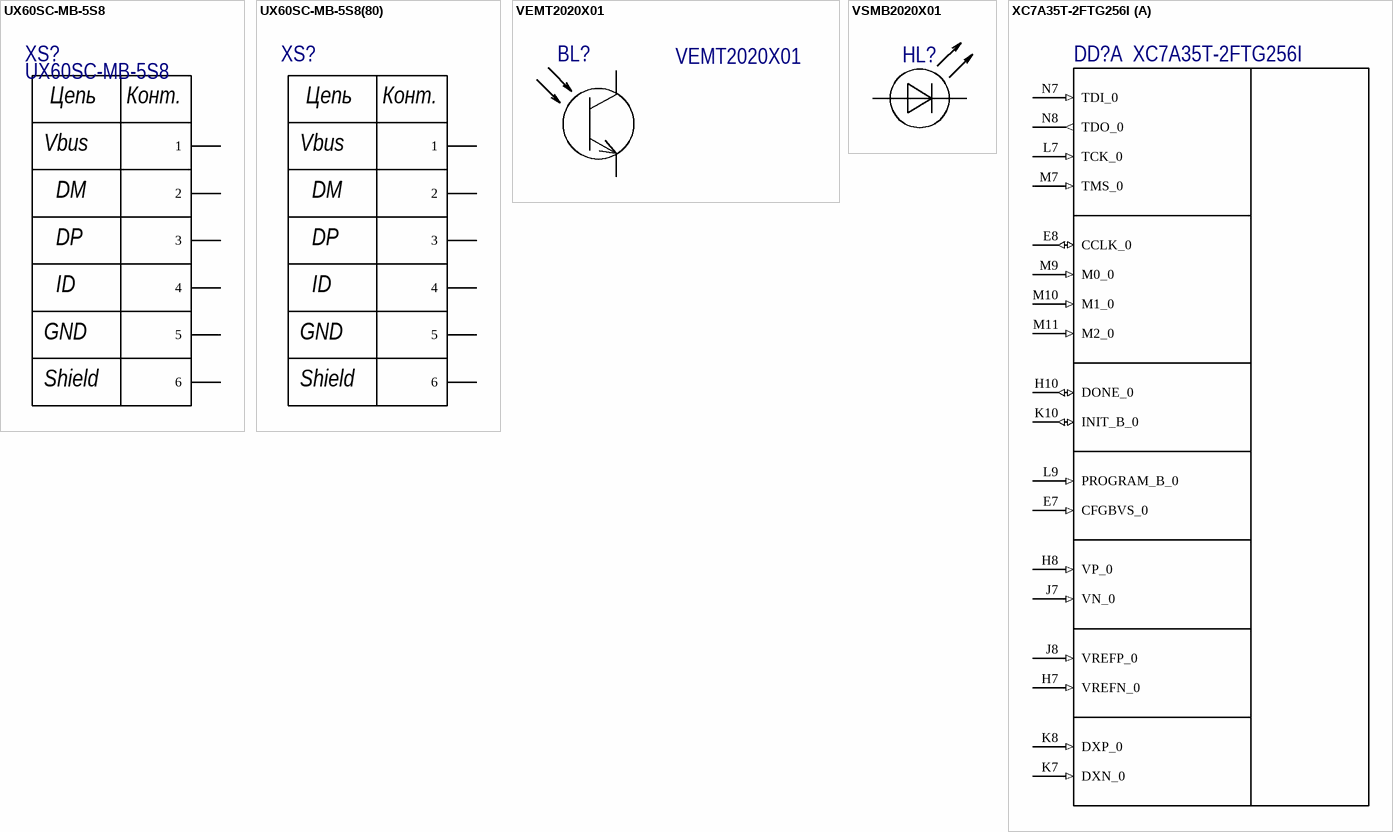
[diagram p12: symbols UX60SC-MB-5S8 to XC7A35T-2FTG256I]

## UX60SC-MB-5S8
designator XS?
USB - mini B USB 2.0 Receptacle Connector 5 Position Surface Mount, Right Angle; Through Hole; Manufacturer: Hirose; Connector Type: USB,Receptacle; Number of Contacts: 5; Current Rating: 1A; Number of Ports: 1; Insulation Resistance: 100MR; Max Voltage Rating (AC): 5V; USB Standard: USB 2.0; Pitch: 0.8mm; Supplier 1: Digi-Key; Supplier Part Number 1: H11589CT-ND; Manufacturer Part Number: UX60SC-MB-5S8; Stock 1: 16038; Pricing 1: 1=1.05, 10=0.926, 25=0.8712, 50=0.835, 100=0.7986, 250=0.726, 500=0.6534 (USD); Mount: Surface Mount,Horizontal,Through Hole; Contact Material: Copper Alloy,Copper; Contact Plating: Gold; Number of Terminals: 5; Min Operating Temperature: -30°C; Max Operating Temperature: 75°C; Package Quantity: 1000; Packaging: Tape and Reel; Gender: Receptacle; Termination: Solder; Orientation: Right Angle; Number of Rows: 1; Max Current Rating: 1A; Number of Positions: 5; Length: 7.7mm; Depth: 7mm; REACH SVHC: No SVHC; Lead Free: Lead Free; ComponentLink1URL: http://www.farnell.com/datasheets/2043912.pdf?src-supplier=Element14; ComponentLink1Description: http://www.farnell.com/datasheets/2043912.pdf?src-supplier=Element14; ComponentLink2URL: http://www.mouser.com/ds/2/185/UX_catalog-939708.pdf?src-supplier=Mouser; ComponentLink2Description: http://www.mouser.com/ds/2/185/UX_catalog-939708.pdf?src-supplier=Mouser; ComponentLink3URL: https://www.verical.com/server-webapp/html/getDatasheet?partID=457316&src-supplier=Verical; ComponentLink3Description: https://www.verical.com/server-webapp/html/getDatasheet?partID=457316&src-supplier=Verical
pins: 1, 2, 3, 4, 5, 6
text: Цепь; Конт.; Vbus; DM; DP; ID; GND; Shield

## UX60SC-MB-5S8(80)
designator XS?  (value not drawn)
USB - mini B USB 2.0 Receptacle Connector 5 Position Surface Mount, Right Angle; Through Hole; Manufacturer: Hirose; Voltage Rating: 30V; Current Rating: 1A; Number of Contacts: 5; Supplier 1: Digi-Key; Supplier Part Number 1: H125762CT-ND; Manufacturer Part Number: UX60SC-MB-5S8(80); Stock 1: 4220; Pricing 1: 1=0.8, 10=0.701, 25=0.66, 50=0.6326, 100=0.605, 250=0.55, 500=0.495 (USD); Mount: Surface Mount,Horizontal,Through Hole; Contact Material: Copper Alloy; Min Operating Temperature: -30°C; Max Operating Temperature: 75°C; Package Quantity: 1000; Packaging: Tape and Reel; Gender: Receptacle; Connector Type: USB; Termination: Solder; Orientation: Right Angle; ComponentLink1URL: https://media.digikey.com/pdf/Data%20Sheets/Hirose%20PDFs/UX60S.pdf?src-supplier=Digi-Key; ComponentLink1Description: https://media.digikey.com/pdf/Data%20Sheets/Hirose%20PDFs/UX60S.pdf?src-supplier=Digi-Key
footprint UX60SC-MB-5S8(80)
pins: 1, 2, 3, 4, 5, 6
text: Цепь; Конт.; Vbus; DM; DP; ID; GND; Shield

## VEMT2020X01
designator BL?
VISHAY SEMICONDUCTOR   VEMT2020X01   TRANSISTOR, PHOTO, NPN, 860NM, SMD; Lens Color: Black; Power Consumption: 100mW; Viewing Angle: 15°; Number of Channels: 1; Collector Emitter Voltage (VCEO): 7V; Max Collector Current: 50mA; Collector Emitter Breakdown Voltage: 20V; Collector Emitter Saturation Voltage: 400mV; Lens Style: Domed; Dark Current: 100nA; Supplier 1: Digi-Key; Manufacturer: Vishay; Manufacturer Part Number: VEMT2020X01; Stock 1: 215399; Pricing 1: 1=0,88000, 10=0,68700, 100=0,44180, 500=0,37306, 1000=0,29453, 2500=0,27489 (USD); RoHS: Yes; Mount: Surface Mount; Case/Package: SMD/SMT; Number of Pins: 2; Min Operating Temperature: -40°C; Max Operating Temperature: 100°C; Wavelength: 860nm; Package Quantity: 6000; Packaging: Tape and Reel; Max Power Dissipation: 100mW; Max Breakdown Voltage: 20V; Polarity: NPN; Number of Elements: 1; Power Dissipation: 100mW; Orientation: Top View; Length: 2.3mm; Height: 2.77mm; Width: 2.3mm; Radiation Hardening: No; REACH SVHC: Unknown; Lead Free: Lead Free; ComponentLink1URL: https://datasheet.ciiva.com/1249/485099-1249696.pdf?src-supplier=Element14; ComponentLink1Description: https://datasheet.ciiva.com/1249/485099-1249696.pdf?src-supplier=Element14; ComponentLink2URL: https://datasheet.ciiva.com/2820/vemt2000-2820704.pdf?src-supplier=Digi-Key; ComponentLink2Description: https://datasheet.ciiva.com/2820/vemt2000-2820704.pdf?src-supplier=Digi-Key; ComponentLink3URL: https://datasheet.ciiva.com/11772/0900766b80de2cdd-11772657.pdf?src-supplier=RSComponents; ComponentLink3Description: https://datasheet.ciiva.com/11772/0900766b80de2cdd-11772657.pdf?src-supplier=RSComponents; ComponentLink4URL: https://datasheet.ciiva.com/4697/vemt2000-79445-4697422.pdf?src-supplier=Mouser; ComponentLink4Description: https://datasheet.ciiva.com/4697/vemt2000-79445-4697422.pdf?src-supplier=Mouser; ComponentLink5URL: https://datasheet.ciiva.com/4270/vemt2000-4270344.pdf?src-supplier=Arrow; ComponentLink5Description: https://datasheet.ciiva.com/4270/vemt2000-4270344.pdf?src-supplier=Arrow; ComponentLink6URL: https://datasheet.ciiva.com/2820/vemt2000-2820705.pdf?src-supplier=Digi-Key; ComponentLink6Description: https://datasheet.ciiva.com/2820/vemt2000-2820705.pdf?src-supplier=Digi-Key; ComponentLink7URL: https://datasheet.ciiva.com/2820/vemt2000-2820706.pdf?src-supplier=Digi-Key; ComponentLink7Description: https://datasheet.ciiva.com/2820/vemt2000-2820706.pdf?src-supplier=Digi-Key; ComponentLink8URL: https://datasheet.ciiva.com/1250/485099-1250007.pdf?src-supplier=Element14; ComponentLink8Description: https://datasheet.ciiva.com/1250/485099-1250007.pdf?src-supplier=Element14; ComponentLink9URL: https://datasheet.ciiva.com/8271/vemt2000-8271036.pdf?src-supplier=Avnet; ComponentLink9Description: https://datasheet.ciiva.com/8271/vemt2000-8271036.pdf?src-supplier=Avnet; ComponentLink10URL: https://datasheet.ciiva.com/22696/485099-22696188.pdf?src-supplier=Element14; ComponentLink10Description: https://datasheet.ciiva.com/22696/485099-22696188.pdf?src-supplier=Element14; ComponentLink11URL: https://datasheet.ciiva.com/16511/vemt2000-16511768.pdf?src-supplier=Future+Electronics; ComponentLink11Description: https://datasheet.ciiva.com/16511/vemt2000-16511768.pdf?src-supplier=Future+Electronics; ComponentLink12URL: https://datasheet.ciiva.com/26165/vemt2000-26165182.pdf?src-supplier=Avnet+Europe; ComponentLink12Description: https://datasheet.ciiva.com/26165/vemt2000-26165182.pdf?src-supplier=Avnet+Europe; Supplier Part Number 1: VEMT2020X01CT-ND
footprint VEMT2020X01 (Phototransistor 2.3x2.3, 2.8 height)
pins: 1 C, 2 E

## VSMB2020X01
designator HL?  (value not drawn)
VISHAY   VSMB2020X01   Infrared Emitter, High Speed, 100 mA, 15 ns, 15 ns, 12 , 1.35 V, -40 C; Lens Style: Diffused,Colorless,Circular,Dome; Viewing Angle: 24°; Wavelength: 940nm; Forward Current: 100mA; Forward Voltage: 1.35V; Power Rating: 160mW; Number of LEDs: 1; Reverse Voltage: 5V; Rise Time: 15ns; Supplier 1: Digi-Key; Manufacturer: Vishay; Manufacturer Part Number: VSMB2020X01; Stock 1: 17283; Pricing 1: 1=0,83000, 10=0,64300, 100=0,41340, 500=0,34912, 1000=0,27563, 2500=0,25725 (USD); RoHS: Yes; Mount: Surface Mount; Case/Package: SMD/SMT; Number of Pins: 2; Contact Plating: Tin; Min Operating Temperature: -40°C; Max Operating Temperature: 85°C; Package Quantity: 1; Packaging: Tape and Reel; Power Dissipation: 160mW; Orientation: Top View; Operating Supply Voltage: 1.35V; Fall Time: 15ns; Test Current: 100mA; Number of Elements: 1; Max Power Dissipation: 160mW; Length: 2.3mm; Depth: 2.3mm; Radiation Hardening: No; Lead Free: Lead Free; REACH SVHC: Unknown; ComponentLink1URL: https://datasheet.ciiva.com/26218/vsmb2000-26218672.pdf?src-supplier=Avnet+Europe; ComponentLink1Description: https://datasheet.ciiva.com/26218/vsmb2000-26218672.pdf?src-supplier=Avnet+Europe; ComponentLink2URL: https://datasheet.ciiva.com/11769/0900766b80dea1a2-11769941.pdf?src-supplier=RSComponents; ComponentLink2Description: https://datasheet.ciiva.com/11769/0900766b80dea1a2-11769941.pdf?src-supplier=RSComponents; ComponentLink3URL: https://datasheet.ciiva.com/1234/485140-1234369.pdf?src-supplier=Element14; ComponentLink3Description: https://datasheet.ciiva.com/1234/485140-1234369.pdf?src-supplier=Element14; ComponentLink4URL: https://datasheet.ciiva.com/2107/vsmb2000-2107508.pdf?src-supplier=Digi-Key; ComponentLink4Description: https://datasheet.ciiva.com/2107/vsmb2000-2107508.pdf?src-supplier=Digi-Key; ComponentLink5URL: https://datasheet.ciiva.com/2107/vsmb2000-2107509.pdf?src-supplier=Digi-Key; ComponentLink5Description: https://datasheet.ciiva.com/2107/vsmb2000-2107509.pdf?src-supplier=Digi-Key; ComponentLink6URL: https://datasheet.ciiva.com/2107/vsmb2000-2107510.pdf?src-supplier=Digi-Key; ComponentLink6Description: https://datasheet.ciiva.com/2107/vsmb2000-2107510.pdf?src-supplier=Digi-Key; ComponentLink7URL: https://datasheet.ciiva.com/3161/vsmb2000-3161449.pdf?src-supplier=Avnet; ComponentLink7Description: https://datasheet.ciiva.com/3161/vsmb2000-3161449.pdf?src-supplier=Avnet; ComponentLink8URL: https://datasheet.ciiva.com/16500/vsmb2000-16500555.pdf?src-supplier=Future+Electronics; ComponentLink8Description: https://datasheet.ciiva.com/16500/vsmb2000-16500555.pdf?src-supplier=Future+Electronics; ComponentLink9URL: https://datasheet.ciiva.com/4670/vsmb2000-244751-4670605.pdf?src-supplier=Mouser; ComponentLink9Description: https://datasheet.ciiva.com/4670/vsmb2000-244751-4670605.pdf?src-supplier=Mouser; Supplier Part Number 1: VSMB2020X01CT-ND
footprint VSMB2020X01 (IR LED 2.3x2.3, 2.8 height)
pins: 1 C, 2 A
1 alternate drawing of the same symbol

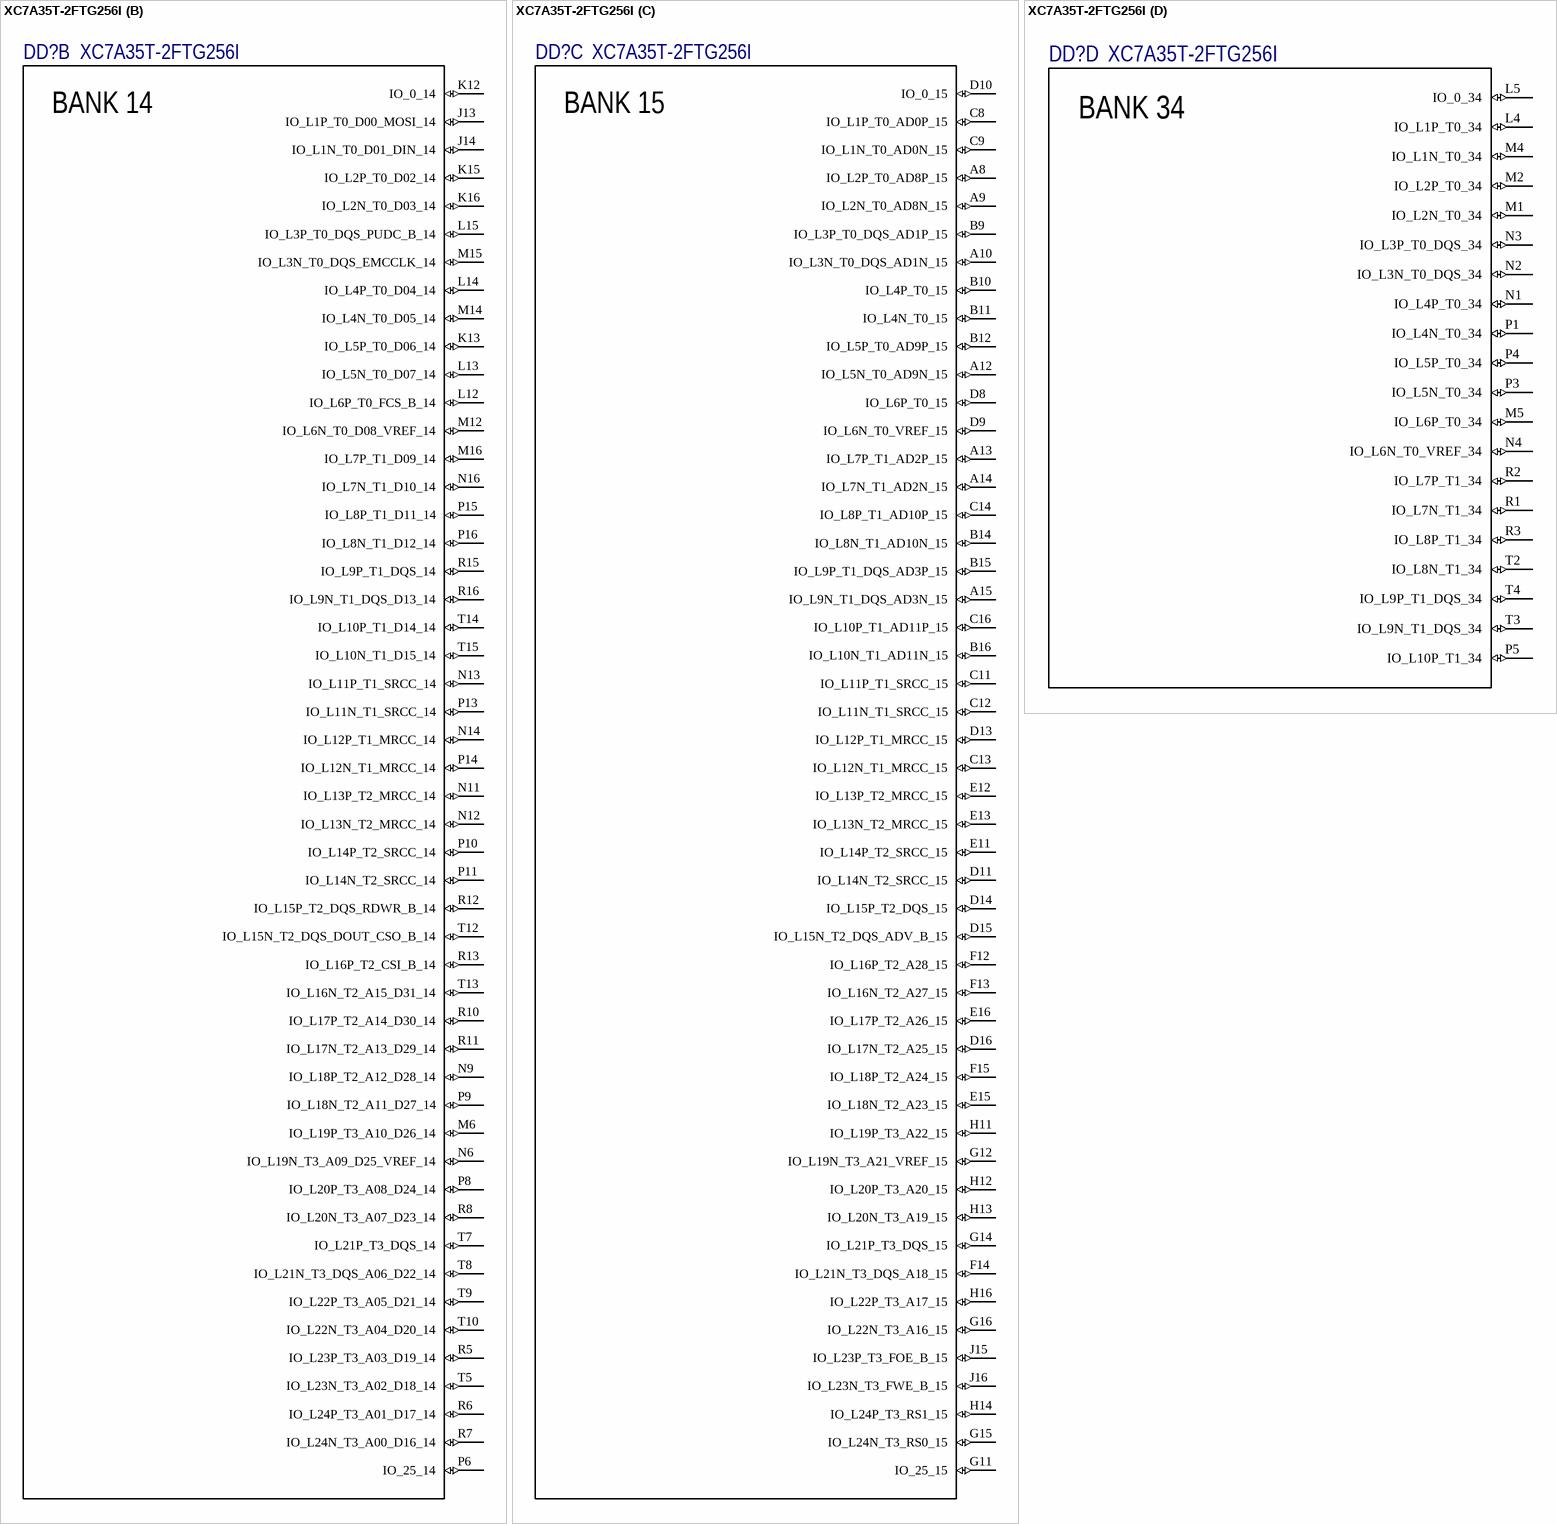
[diagram p13: symbol XC7A35T-2FTG256I]

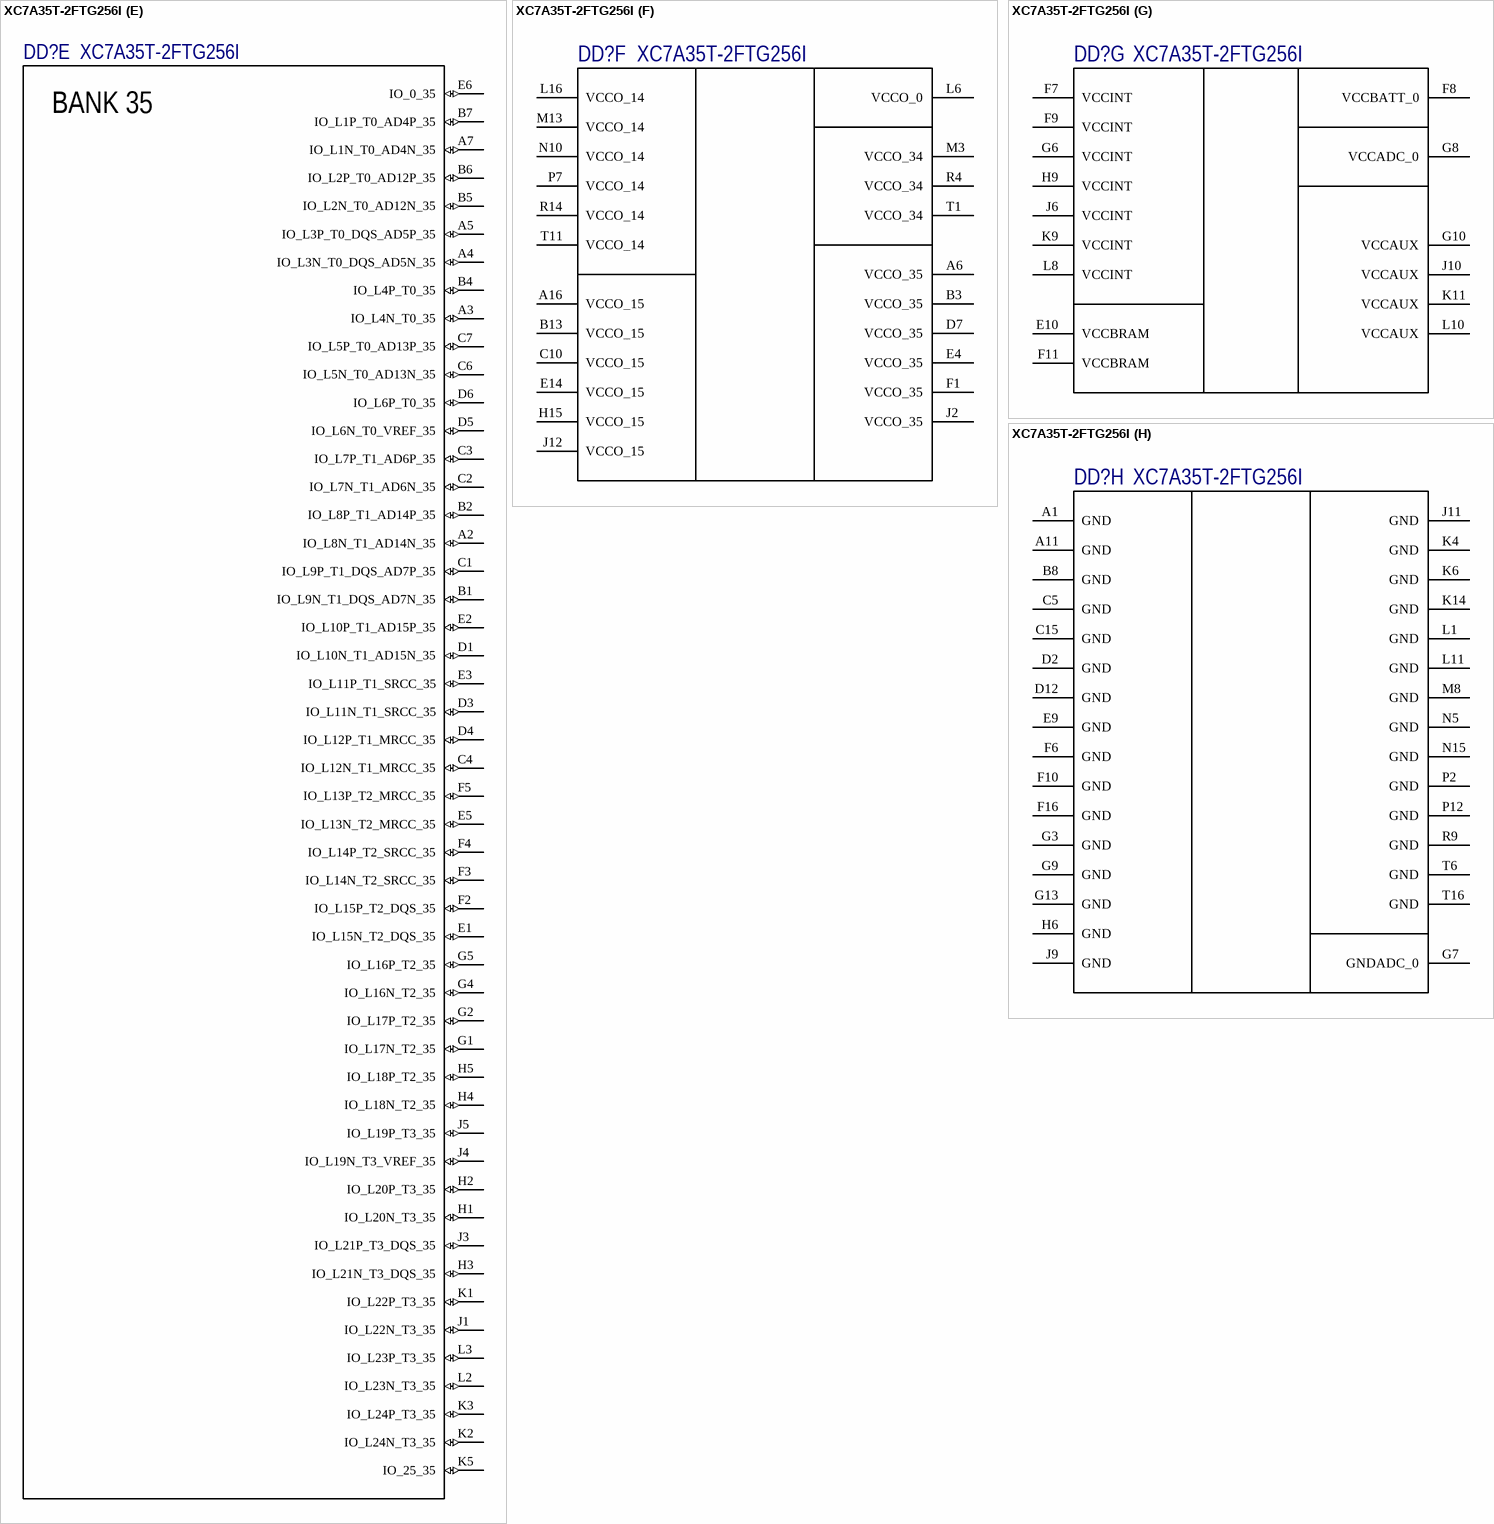
[diagram p14: symbol XC7A35T-2FTG256I]